# EAGLE library part 74HC595PW (library BOS_libs)
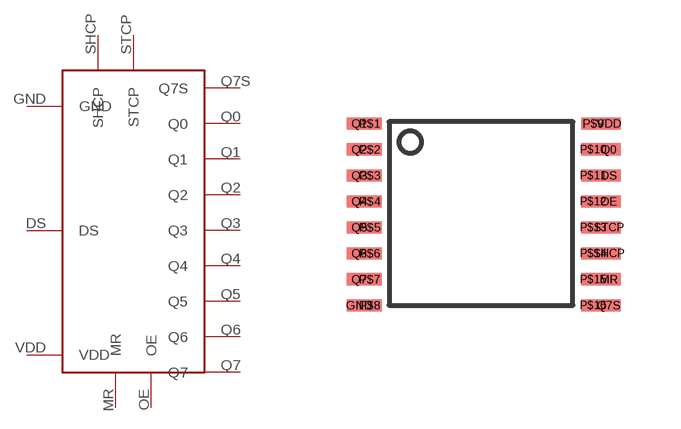
[diagram p0: symbol with the pads of 74HC595PW; footprint 74HC595PW]

Designator prefix -

## 74HC595PW  [74HC595PW]
DS  DS
GND  GND
MR  MR
OE  OE
Q0  Q0
Q1  Q1
Q2  Q2
Q3  Q3
Q4  Q4
Q5  Q5
Q6  Q6
Q7  Q7
Q7S  Q7S
SHCP  SHCP
STCP  STCP
VDD  VDD

## Footprint 74HC595PW (pad centres in mm)
smd 0.61 x 0.305: DS 3.38,0.65; GND -2.86,-2.6; MR 3.38,-1.95; OE 3.38,0; P$1 -2.6,1.95; P$2 -2.6,1.3; P$3 -2.6,0.65; P$4 -2.6,0; P$5 -2.6,-0.65; P$6 -2.6,-1.3; P$7 -2.6,-1.95; P$8 -2.6,-2.6; P$9 2.99,1.95; P$10 2.99,1.3; P$11 2.99,0.65; P$12 2.99,0; P$13 2.99,-0.65; P$14 2.99,-1.3; P$15 2.99,-1.95; P$16 2.99,-2.6; Q0 3.38,1.3; Q1 -2.86,1.95; Q2 -2.86,1.3; Q3 -2.86,0.65; Q4 -2.86,0; Q5 -2.86,-0.65; Q6 -2.86,-1.3; Q7 -2.86,-1.95; Q7S 3.38,-2.6; SHCP 3.38,-1.3; STCP 3.38,-0.65; VDD 3.38,1.95